# EAGLE library part NAU8325 (library pimoroni-ics)
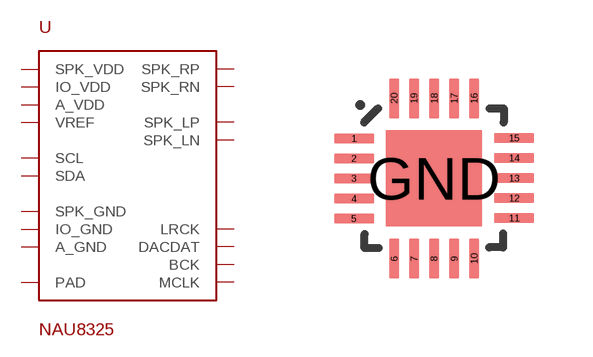
[diagram p159: symbol with the pads of QFN-20; footprint QFN-20]

Designator prefix -

## NAU8325  [QFN-20]
1  SPK_RP  out
2  SPK_VDD  pwr
3  A_GND  pwr
4  VREF  pwr
5  A_VDD  pwr
6  LRCK  in
7  DACDAT  in
8  BCK  in
9  IO_VDD  pwr
10  MCLK  in
11  SCL  in
12  SDA  in
13  IO_GND  pwr
14  SPK_VDD  pwr
15  SPK_LP  out
16  SPK_GND  pwr
17  SPK_LN  out
18  SPK_VDD  pwr
19  SPK_RN  out
20  SPK_GND  pwr
GND  PAD  pwr

## Footprint QFN-20 (pad centres in mm)
smd 1 x 0.25: 1 -2.005,1; 2 -2.005,0.502; 3 -2.005,0.004; 4 -2.005,-0.504; 5 -2.005,-1.002; 11 2.005,-0.99; 12 2.005,-0.492; 13 2.005,0.006; 14 2.005,0.514; 15 2.005,1.012
smd 0.25 x 1: 6 -1,-2.005; 7 -0.502,-2.005; 8 -0.004,-2.005; 9 0.504,-2.005; 10 1.002,-2.005; 16 1,2.005; 17 0.502,2.005; 18 0.004,2.005; 19 -0.504,2.005; 20 -1.002,2.005
smd 2.4 x 2.4: GND 0,0